# EAGLE library part BPI_ZERO_ETH (library Embedded > SBC)
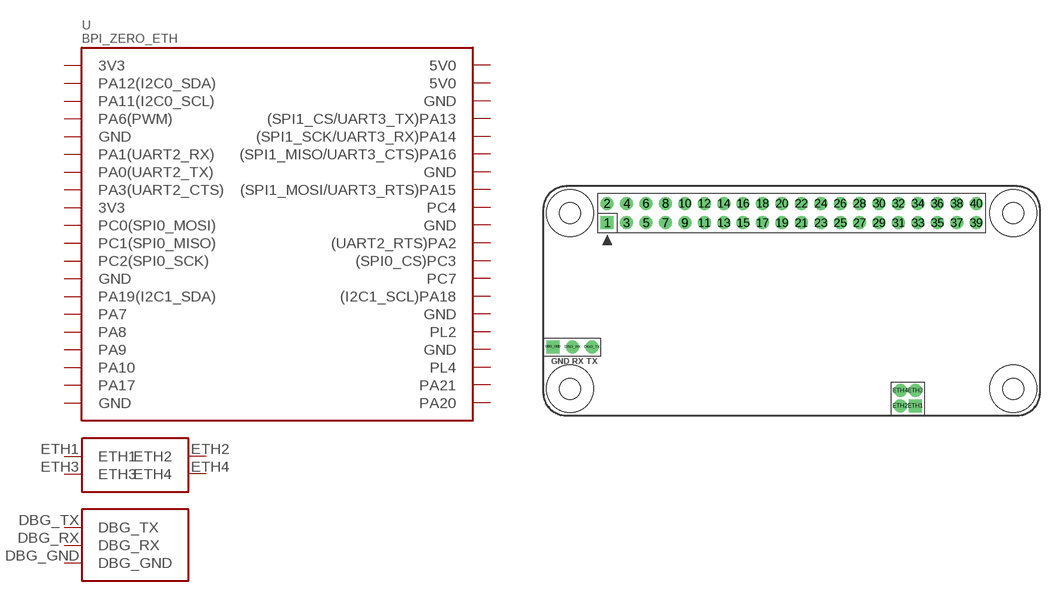
[diagram p1: symbol with the pads of PI_ZERO_ETH; footprint PI_ZERO_ETH]

Designator prefix U

## BPI_ZERO_ETH  [PI_ZERO_ETH]
DBG_GND  DBG_GND
DBG_RX  DBG_RX
DBG_TX  DBG_TX
ETH1  ETH1
ETH2  ETH2
ETH3  ETH3
ETH4  ETH4

## Footprint PI_ZERO_ETH (pad centres in mm)
Raspberry Pi board model B+, full outline with position of big connectors & drill holes
drill 1.1 pad 1.7 square: 1 8.37,25.23; DBG_GND 1.27,9; ETH1 48.7,1.27
drill 1.1 pad 1.7: 2 8.37,27.77; 3 10.91,25.23; 4 10.91,27.77; 5 13.45,25.23; 6 13.45,27.77; 7 15.99,25.23; 8 15.99,27.77; 9 18.53,25.23; 10 18.53,27.77; 11 21.07,25.23; 12 21.07,27.77; 13 23.61,25.23; 14 23.61,27.77; 15 26.15,25.23; 16 26.15,27.77; 17 28.69,25.23; 18 28.69,27.77; 19 31.23,25.23; 20 31.23,27.77; 21 33.77,25.23; 22 33.77,27.77; 23 36.31,25.23; 24 36.31,27.77; 25 38.85,25.23; 26 38.85,27.77; 27 41.39,25.23; 28 41.39,27.77; 29 43.93,25.23; 30 43.93,27.77; 31 46.47,25.23; 32 46.47,27.77; 33 49.01,25.23; 34 49.01,27.77; 35 51.55,25.23; 36 51.55,27.77; 37 54.09,25.23; 38 54.09,27.77; 39 56.63,25.23; 40 56.63,27.77; DBG_RX 3.81,9; DBG_TX 6.35,9; ETH2 46.7,1.27; ETH3 48.7,3.27; ETH4 46.7,3.27
hole 2.75 at 3.5,3.5
hole 2.75 at 3.5,26.5
hole 2.75 at 61.5,3.5
hole 2.75 at 61.5,26.5